# Altium schematic symbol library HEV2aN-P.SchLib: 1 symbol
Pins are listed as number, name and electrical type; pins without a type are passive.

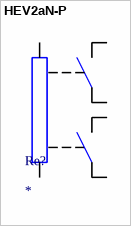
[diagram p0: symbol HEV2aN-P]

## HEV2aN-P
designator Re?
pins: 1 NO11, 2 NO12, 3 NO21, 4 NO22, 5 -, 6 +